# Altium footprint library Inductors_packages.PcbLib: 3 footprints
Each footprint in its own frame and in the unit in brackets; x right, y up, seen from the top. Pads: shape width x height; smd on the part's side, far side on the other; paste and mask are expansions set on the pad; w line width, h text height; cw(c..) or ccw(c..) is an arc to the next point about the centre after c.
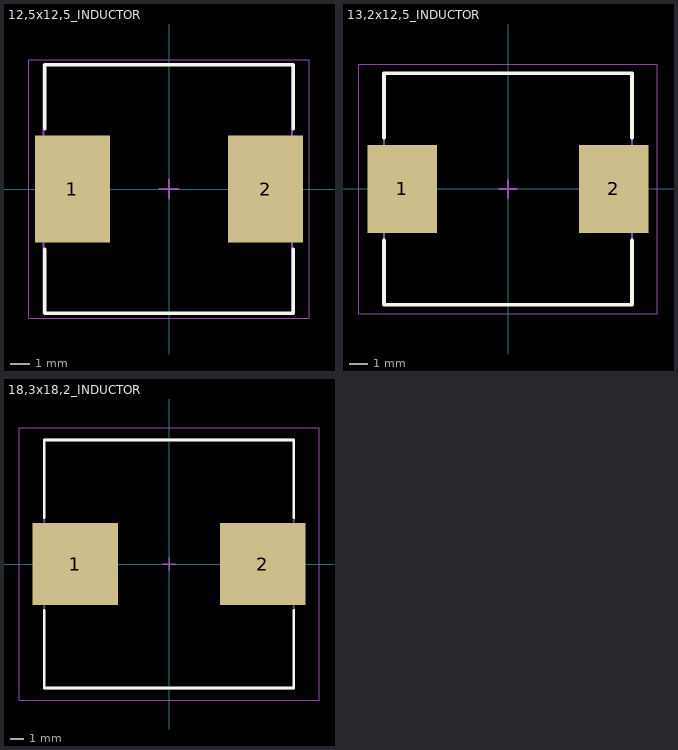
[diagram p0: the footprints below, top view; thin cyan lines are the x and y axes]

## 12,5x12,5_INDUCTOR [mm]
pads (2):
  rect 3.85x5.5 smd: 1(-4.975,0) 2(4.975,0)
Top Overlay:
  lines w0.2: -6.4,-3.1 -6.4,-6.4 6.4,-6.4 6.4,-3.1 ; -6.4,3.1 -6.4,6.4 6.4,6.4 6.4,3.1
Mechanical 13:
  lines w0.1: -6.462,-6.399 -6.462,6.401 6.338,6.401 6.338,-6.399 -6.462,-6.399
Mechanical 15:
  lines w0.05: -7.225,-6.65 -7.225,6.65 7.225,6.65 7.225,-6.65 -7.225,-6.65
  lines w0.1: -0.5,0 0.5,0 ; 0,-0.5 0,0.5
3D body "SRR1280.STEP": height 7.9, standoff 0, extent -6.25,-6.25 6.25,6.25

## 13,2x12,5_INDUCTOR [mm] "Precision Wire Wound Inductor, 2-Leads, Body 13,20x12,50mm, IPC Low Density"
height 6.4
pads (2):
  rect 3.8x4.85 smd: 1(-5.8,0) 2(5.8,0)
Top Overlay:
  lines w0.2: -6.8,-2.825 -6.8,-6.35 6.8,-6.35 6.8,-2.825 ; -6.8,2.825 -6.8,6.35 6.8,6.35 6.8,2.825
Mechanical 13:
  lines w0.1: -6.8,-6.35 6.8,-6.35 6.8,6.35 -6.8,6.35 -6.8,-6.35
Mechanical 15:
  lines w0.05: -8.175,-6.85 8.175,-6.85 8.175,6.85 -8.175,6.85 -8.175,-6.85
  lines w0.1: -0.5,0 0.5,0 ; 0,-0.5 0,0.5
3D body: height 6.4, standoff 0, extent -6.8,-6.35 6.8,6.35

## 18,3x18,2_INDUCTOR [mm]
pads (2):
  rect 6.25x6 smd: 1(-6.875,0) 2(6.875,0)
Top Overlay:
  lines w0.2: -9.15,-3.4 -9.15,-9.1 9.15,-9.1 9.15,-3.4 ; -9.15,3.4 -9.15,9.1 9.15,9.1 9.15,3.4
Mechanical 13:
  lines w0.1: -9.144,-9.144 9.144,-9.144 9.144,9.144 -9.144,9.144 -9.144,-9.144
Mechanical 15:
  lines w0.05: -11,-10 -11,10 11,10 11,-10 -11,-10
  lines w0.1: -0.5,0 0.5,0 ; 0,-0.5 0,0.5
3D body: height 9, standoff 0, extent -9.144,-9.144 9.144,9.144